# Altium schematic symbol library Schlib.SchLib: 137 symbols (part 1 of 4)
Pins are listed as number, name and electrical type; pins without a type are passive.

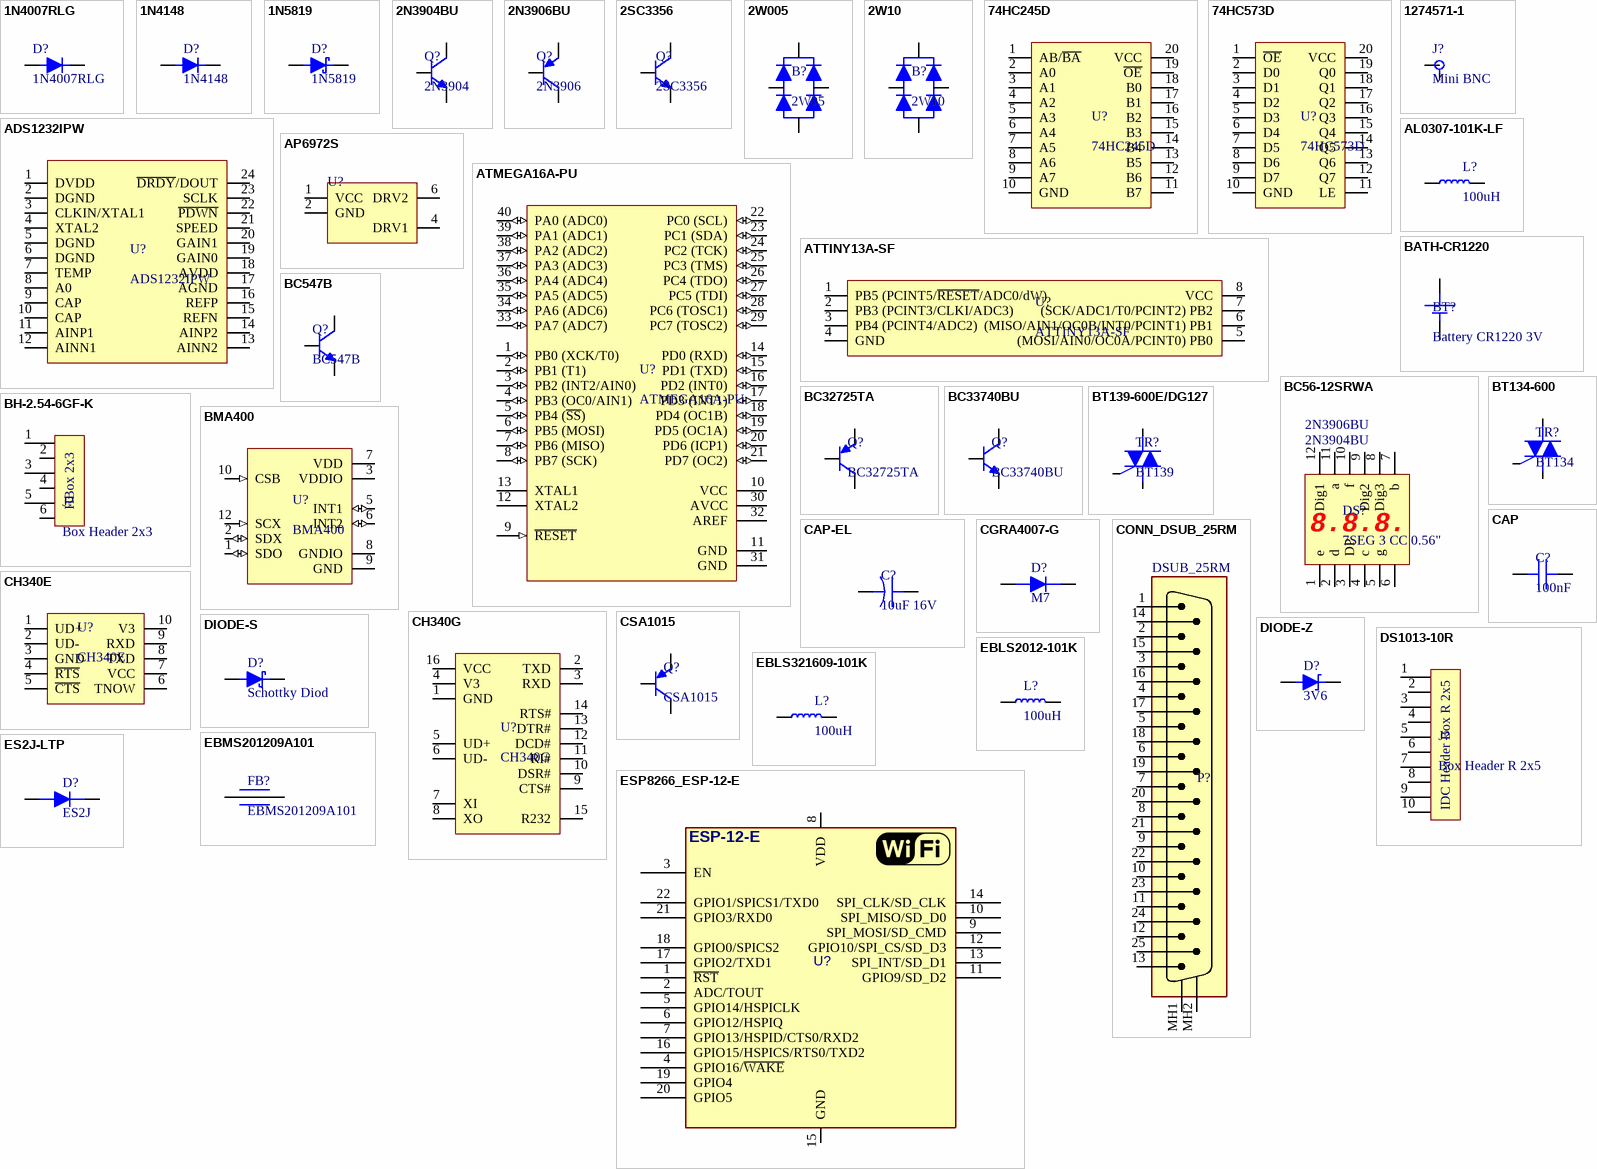
[diagram p0: symbols 1N4007RLG to ESP8266_ESP-12-E]

## 1N4007RLG
designator D?
Rectifier Diode Switching 1KV 1A 2-Pin DO-41 T/R / DIODE GEN PURP 1KV 1A DO41; Manufacturer: ON Semiconductor; Element Configuration: Single; Polarity: Standard; Max Reverse Current: 10uA; Forward Voltage: 1.1V; Max Forward Surge Current (Ifsm): 30A; Supplier 1: Digi-Key; Manufacturer Part Number: 1N4007RLG; RoHS: Yes; Category: Rectifier Diodes; Stock 1: 67771; Pricing 1: 1=0/26000, 10=0/21700, 100=0/11480, 500=0/07552, 1000=0/05136, 2000=0/04632 (USD); Number of Pins: 2; Weight: 0.01lb; Contact Plating: Tin,Matte; Min Operating Temperature: -65°C; Max Operating Temperature: 175°C; Packaging: Tape and Reel; Max Repetitive Reverse Voltage (Vrrm): 1kV; Package Quantity: 1; Voltage Rating (DC): 1kV; Current Rating: 1A; Peak Non-Repetitive Surge Current: 30A; Output Current: 1A; Max Surge Current: 30A; Forward Current: 1A; Average Rectified Current: 1A; Max Reverse Voltage (DC): 1kV; Reverse Voltage: 1kV; Length: 5.2mm; Width: 2.7mm; Height: 2.7mm; Radiation Hardening: No; RoHS Compliant: Yes; Lead Free: Lead Free; REACH SVHC: No SVHC; Halogen Free: Halogen Free; ComponentLink1URL: https://datasheet.ciiva.com/915/1n4001-d-915344.pdf?src-supplier=Digi-Key; ComponentLink1Description: https://datasheet.ciiva.com/915/1n4001-d-915344.pdf?src-supplier=Digi-Key; ComponentLink2URL: https://datasheet.ciiva.com/30479/0900766b811a6370-30479218.pdf?src-supplier=RSComponents; ComponentLink2Description: https://datasheet.ciiva.com/30479/0900766b811a6370-30479218.pdf?src-supplier=RSComponents; ComponentLink3URL: https://datasheet.ciiva.com/30479/0900766b811a6370-30479534.pdf?src-supplier=RSComponents; ComponentLink3Description: https://datasheet.ciiva.com/30479/0900766b811a6370-30479534.pdf?src-supplier=RSComponents; ComponentLink4URL: https://datasheet.ciiva.com/30479/0900766b811a6370-30479209.pdf?src-supplier=RSComponents; ComponentLink4Description: https://datasheet.ciiva.com/30479/0900766b811a6370-30479209.pdf?src-supplier=RSComponents; ComponentLink5URL: https://datasheet.ciiva.com/3304/1n4001-d-3304216.pdf?src-supplier=Avnet; ComponentLink5Description: https://datasheet.ciiva.com/3304/1n4001-d-3304216.pdf?src-supplier=Avnet; ComponentLink6URL: https://datasheet.ciiva.com/15144/getdatasheetpartid-66688-15144397.pdf?src-supplier=Verical; ComponentLink6Description: https://datasheet.ciiva.com/15144/getdatasheetpartid-66688-15144397.pdf?src-supplier=Verical; ComponentLink7URL: https://datasheet.ciiva.com/25950/1n4001-d-25950062.pdf?src-supplier=Avnet+Europe; ComponentLink7Description: https://datasheet.ciiva.com/25950/1n4001-d-25950062.pdf?src-supplier=Avnet+Europe; ComponentLink8URL: https://datasheet.ciiva.com/16472/1n4001-d-16472587.pdf?src-supplier=Avnet+Asia; ComponentLink8Description: https://datasheet.ciiva.com/16472/1n4001-d-16472587.pdf?src-supplier=Avnet+Asia; ComponentLink9URL: https://datasheet.ciiva.com/915/1n4001-d-915345.pdf?src-supplier=Digi-Key; ComponentLink9Description: https://datasheet.ciiva.com/915/1n4001-d-915345.pdf?src-supplier=Digi-Key; ComponentLink10URL: https://datasheet.ciiva.com/22659/1689669-22659000.pdf?src-supplier=Element14; ComponentLink10Description: https://datasheet.ciiva.com/22659/1689669-22659000.pdf?src-supplier=Element14; ComponentLink11URL: https://datasheet.ciiva.com/22659/1689669-22659001.pdf?src-supplier=Element14; ComponentLink11Description: https://datasheet.ciiva.com/22659/1689669-22659001.pdf?src-supplier=Element14; Supplier Part Number 1: 1N4007RLGOSCT-ND
footprint Diode_Axial_Lead
pins: A, K

## 1N4148
designator D?
Rectifier Diode Small Signal Switching 100V 0.2A 4ns Automotive 2-Pin DO-35 Ammo; Manufacturer: NXP Semiconductors; Forward Voltage: 1V; Forward Current: 200mA; Element Configuration: Single; Max Forward Surge Current (Ifsm): 4A; Polarity: Standard; Capacitance: 4pF; Max Power Dissipation: 500mW; Supplier 1: Arrow Electronics; Manufacturer Part Number: 1N4148; RoHS: Yes; Category: Rectifier Diodes; Case/Package: SOD; Number of Pins: 2; Weight: 0.01lb; Min Operating Temperature: -65°C; Max Operating Temperature: 200°C; Packaging: Ammo Pack; Reverse Recovery Time: 4ns; Max Repetitive Reverse Voltage (Vrrm): 100V; Peak Non-Repetitive Surge Current: 4A; Current Rating: 200mA; Voltage Rating (DC): 100V; Output Current: 200mA; Voltage: 100V; Current: 4A; Termination: Axial; Length: 2.5inch; Width: 0.25inch; Height: 0.25inch; Radiation Hardening: No; Lead Free: Lead Free; RoHS Compliant: Yes; REACH SVHC: No SVHC; ComponentLink1URL: https://datasheet.ciiva.com/1179/1720485-1179297.pdf?src-supplier=Element14; ComponentLink1Description: https://datasheet.ciiva.com/1179/1720485-1179297.pdf?src-supplier=Element14; ComponentLink2URL: https://datasheet.ciiva.com/26921/getdatasheetpartid-764103-26921186.pdf?src-supplier=Verical; ComponentLink2Description: https://datasheet.ciiva.com/26921/getdatasheetpartid-764103-26921186.pdf?src-supplier=Verical; Supplier Part Number 1: 1N4148
footprint DO-35
pins: A, K

## 1N5819
designator D?
1N58 Series 600 mV 1 A 40 V Max Reverse Voltage Schottky Barrier Rectifier-DO-41; Manufacturer: ON Semiconductor / Fairchild; Max Reverse Current: 500uA; Forward Voltage: 900mV; Forward Current: 1A; Max Repetitive Reverse Voltage (Vrrm): 40V; Peak Non-Repetitive Surge Current: 25A; Element Configuration: Single; Polarity: Standard; Capacitance: 110pF; Max Reverse Leakage Current: 1mA; Supplier 1: Digi-Key; Manufacturer Part Number: 1N5819; RoHS: Yes; Category: Schottky Diodes; Mount: Through Hole; Case/Package: DO-41; Number of Pins: 2; Weight: 0.245g; Contact Plating: Tin,Matte; Min Operating Temperature: -65°C; Max Operating Temperature: 125°C; Packaging: Tape and Reel; Package Quantity: 5000; Average Rectified Current: 1A; Voltage Rating (DC): 40V; Current Rating: 1A; Output Current: 1A; Max Reverse Voltage (DC): 40V; Max Surge Current: 25A; Max Forward Surge Current (Ifsm): 25A; Series: -; Diameter: 2.72mm; Length: 5.2mm; Width: 2.72mm; Height: 2.72mm; Radiation Hardening: No; RoHS Compliant: Yes; REACH SVHC: No SVHC; Lead Free: Lead Free; ComponentLink1URL: https://datasheet.ciiva.com/34302/1200637-34302074.pdf?src-supplier=Jameco; ComponentLink1Description: https://datasheet.ciiva.com/34302/1200637-34302074.pdf?src-supplier=Jameco; ComponentLink2URL: https://datasheet.ciiva.com/4719/1n5817-d-103200-4719059.pdf?src-supplier=Mouser; ComponentLink2Description: https://datasheet.ciiva.com/4719/1n5817-d-103200-4719059.pdf?src-supplier=Mouser; ComponentLink3URL: https://datasheet.ciiva.com/25951/1n5819-25951350.pdf?src-supplier=Avnet+Europe; ComponentLink3Description: https://datasheet.ciiva.com/25951/1n5819-25951350.pdf?src-supplier=Avnet+Europe; ComponentLink4URL: https://datasheet.ciiva.com/1177/1671052-1177084.pdf?src-supplier=Element14; ComponentLink4Description: https://datasheet.ciiva.com/1177/1671052-1177084.pdf?src-supplier=Element14; ComponentLink5URL: https://datasheet.ciiva.com/8300/1n5819-8300426.pdf?src-supplier=Avnet; ComponentLink5Description: https://datasheet.ciiva.com/8300/1n5819-8300426.pdf?src-supplier=Avnet; ComponentLink6URL: https://datasheet.ciiva.com/22651/1671052-22651942.pdf?src-supplier=Element14; ComponentLink6Description: https://datasheet.ciiva.com/22651/1671052-22651942.pdf?src-supplier=Element14; Supplier Part Number 1: 1N5819FSCT-ND
footprint Diode_Axial_Lead
pins: A, K

## 2N3904BU
designator Q?, comment 2N3904
Transistor General Purpose BJT NPN 40 Volt 0.2 Amp 3-Pin TO-92 Bulk
footprint TO-92
pins: 1 E, 2 B, 3 C

## 2N3906BU
designator Q?, comment 2N3906
Transistor General Purpose BJT PNP 40 Volt 0.2 Amp 3-Pin TO-92 Bulk
footprint to-92
pins: 1 E, 2 B, 3 C

## 2SC3356
designator Q?
NPN Epitaxial Silicon RF Transistor for Microwave Low-Noise Amplification 3-pin Minimold R25 1GHz
footprint SOT-23-3
pins: 1 B, 2 E, 3 C

## 2W005
designator B?, comment 2W05
Diode Bridge Rectifer Vr=50V IF=2A VF=1.1V@2A; Manufacturer: Vishay Semiconductors; Manufacturer Part Number: 2W10G-E4/51; Capacitance: 20pF; Forward Current: 2A; Max Reverse Current: 5uA; Max Surge Current: 60A; Forward Voltage: 1.1V; Number of Elements: 1; Max Repetitive Reverse Voltage (Vrrm): 1kV; Element Configuration: Single; RoHS: Yes; Category: Rectifier Diodes; Stock 1: 347; Pricing 1: 1=0/85000, 10=0/75400, 50=0/75400, 100=0/57800, 1000=0/36600, 10000=0/32100 (USD); Mount: Through Hole; Number of Pins: 4; Min Operating Temperature: -55°C; Max Operating Temperature: 150°C; Packaging: Bulk; Package Quantity: 3000; Series: -; Max Reverse Leakage Current: 5uA; Peak Non-Repetitive Surge Current: 60A; Max Forward Surge Current (Ifsm): 60A; Average Rectified Current: 2A; Output Current: 2A; Diameter: 9mm; Length: 9.86mm; Width: 8.84mm; Height: 5.6mm; Radiation Hardening: No; RoHS Compliant: Yes; Lead Free: Lead Free; REACH SVHC: Unknown
footprint 2WXX-Round-8.85x5.3-Pin5.1x5.1mm
pins: 1 +, 2 ~, 3 -, 4 ~

## 2W10
designator B?
Diode Bridge Rectifer Vr=1000V IF=2A VF=1.1V@2A; Manufacturer: Vishay Semiconductors; Manufacturer Part Number: 2W10G-E4/51; Capacitance: 20pF; Forward Current: 2A; Max Reverse Current: 5uA; Max Surge Current: 60A; Forward Voltage: 1.1V; Number of Elements: 1; Max Repetitive Reverse Voltage (Vrrm): 1kV; Element Configuration: Single; RoHS: Yes; Category: Rectifier Diodes; Stock 1: 347; Pricing 1: 1=0/85000, 10=0/75400, 50=0/75400, 100=0/57800, 1000=0/36600, 10000=0/32100 (USD); Mount: Through Hole; Number of Pins: 4; Min Operating Temperature: -55°C; Max Operating Temperature: 150°C; Packaging: Bulk; Package Quantity: 3000; Series: -; Max Reverse Leakage Current: 5uA; Peak Non-Repetitive Surge Current: 60A; Max Forward Surge Current (Ifsm): 60A; Average Rectified Current: 2A; Output Current: 2A; Diameter: 9mm; Length: 9.86mm; Width: 8.84mm; Height: 5.6mm; Radiation Hardening: No; RoHS Compliant: Yes; Lead Free: Lead Free; REACH SVHC: Unknown
footprint 2WXX-Round-8.85x5.3-Pin5.1x5.1mm
pins: 1 +, 2 ~, 3 -, 4 ~

## 74HC245D
designator U?
74HC Series 6V Surface Mount 3-State Octal Bus Transceiver - SOIC-20; Manufacturer: Nexperia; Manufacturer Part Number: 74HC245D,653; Supplier 1: Mouser; RoHS: Yes; Category: Buffers, Drivers and Transceivers; Stock 1: 690; Pricing 1: 1=0/60000, 10=0/49300, 50=0/49300, 100=0/38100, 1000=0/25100, 10000=0/24300 (USD); RoHS Compliant: Yes; ComponentLink1URL: http://www.farnell.com/datasheets/2030231.pdf?src-supplier=Farnell; ComponentLink1Description: http://www.farnell.com/datasheets/2030231.pdf?src-supplier=Farnell; Supplier Part Number 1: 771-74HC245D-T
footprint SOW-20
pins: 1 AB/~{BA}, 2 A0, 3 A1, 4 A2, 5 A3, 6 A4, 7 A5, 8 A6, 9 A7, 10 GND, 11 B7, 12 B6, 13 B5, 14 B4, 15 B3, 16 B2, 17 B1, 18 B0, 19 ~{OE}, 20 VCC

## 74HC573D
designator U?
IC LATCH OCTAL D 3STATE 20SOIC; Manufacturer: Nexperia; Manufacturer Part Number: 74HC573D,653; Supplier 1: Mouser; RoHS: Yes; Category: Latches and Flip Flops; Stock 1: 45124; Pricing 1: 1=0/67000, 10=0/58500, 50=0/58500, 100=0/44800, 1000=0/28400, 10000=0/25800 (USD); RoHS Compliant: Yes; ComponentLink1URL: https://assets.nexperia.com/documents/data-sheet/74HC_HCT573.pdf?src-supplier=Digi-Key; ComponentLink1Description: https://assets.nexperia.com/documents/data-sheet/74HC_HCT573.pdf?src-supplier=Digi-Key; Supplier Part Number 1: 771-74HC573D-T
footprint SOW-20
pins: 1 ~{OE}, 2 D0, 3 D1, 4 D2, 5 D3, 6 D4, 7 D5, 8 D6, 9 D7, 10 GND, 11 LE, 12 Q7, 13 Q6, 14 Q5, 15 Q4, 16 Q3, 17 Q2, 18 Q1, 19 Q0, 20 VCC

## 1274571-1
designator J?, comment Mini BNC
CONN MINI BNC JACK STR 75OHM PCB; Manufacturer: TE Connectivity; Manufacturer Part Number: 1274571-1; Dielectric Material: PTFE; Body Material: Brass; Body Plating: Nickel; Impedance: 75R; Frequency: 2GHz; Gender: Female; Voltage Rating: 300V; Contact Resistance: 12mR; Mating Cycles: 500; Connector Type: BNC,Jack; Polarity: Normal; Insulation Resistance: 1GR; Number of Positions: 1; PCB Mount Retention: Without; PCB Mounting Orientation: Vertical; Sealable: No (Without); Tail Length: 4mm; Supplier 1: Digi-Key; RoHS: Yes; Category: RF / Coaxial Connectors; Stock 1: 1165; Pricing 1: 1=5/95000, 10=5/40400, 25=5/11840, 50=4/99940, 100=4/76140, 250=4/16624, 500=4/04720, 1000=3/45202, 2500=3/33298 (USD); Mount: Through Hole,PCB,Cable; Contact Material: Bronze; Contact Plating: Gold; Insulation Material: Polytetrafluoroethylene; Min Operating Temperature: -40°C; Max Operating Temperature: 85°C; Orientation: Straight; Termination: Solder; Packaging: Box; Package Quantity: 50; Fastening Type: Bayonet; Voltage Rating (AC): 300V; Max Frequency: 2GHz; Length: 7.54mm; Depth: 7.54mm; Radiation Hardening: No; REACH SVHC: Unknown; ELV: Compliant; Lead Free: Lead Free; ComponentLink1URL: https://datasheet.ciiva.com/11763/0900766b80b27325-11763478.pdf?src-supplier=RSComponents; ComponentLink1Description: https://datasheet.ciiva.com/11763/0900766b80b27325-11763478.pdf?src-supplier=RSComponents; ComponentLink2URL: https://datasheet.ciiva.com/22726/eng-ss-501-585-a-22726636.pdf?src-supplier=Element14; ComponentLink2Description: https://datasheet.ciiva.com/22726/eng-ss-501-585-a-22726636.pdf?src-supplier=Element14; ComponentLink3URL: https://datasheet.ciiva.com/642/c-1274571-b-642904.pdf?src-supplier=Digi-Key; ComponentLink3Description: https://datasheet.ciiva.com/642/c-1274571-b-642904.pdf?src-supplier=Digi-Key; ComponentLink4URL: https://datasheet.ciiva.com/30164/eng-cs-1307191-mini-bnc-connectors-0307-30164565.pdf?src-supplier=Onlinecomponents.com; ComponentLink4Description: https://datasheet.ciiva.com/30164/eng-cs-1307191-mini-bnc-connectors-0307-30164565.pdf?src-supplier=Onlinecomponents.com; ComponentLink5URL: https://datasheet.ciiva.com/16652/eng-cs-1307191-mini-bnc-connectors-0307-16652971.pdf?src-supplier=Avnet+Europe; ComponentLink5Description: https://datasheet.ciiva.com/16652/eng-cs-1307191-mini-bnc-connectors-0307-16652971.pdf?src-supplier=Avnet+Europe; ComponentLink6URL: https://datasheet.ciiva.com/14568/70083431-14568396.pdf?src-supplier=Allied+Electronics; ComponentLink6Description: https://datasheet.ciiva.com/14568/70083431-14568396.pdf?src-supplier=Allied+Electronics; Supplier Part Number 1: A30539-ND
footprint BNC-Mini
footprint BNC-Mini_No3D
pins: 0, 1

## ADS1232IPW
designator U?
Dual Channel Single ADC Delta-Sigma 80sps 24-bit Serial 24-Pin TSSOP Tube; Manufacturer: Texas Instruments; Interface: SPI; Number of Bits: 24; Sampling Rate: 0.08KS/s; Number of A/D Converters: 1; Number of Channels: 2; Max Power Dissipation: 13.1mW; Min Supply Voltage: 2.7V; Max Supply Voltage: 5.3V; Nominal Supply Current: 1.35mA; Operating Supply Voltage: 5V; Resolution: 24b; Polarity: Bipolar; Power Dissipation: 7.1mW; Supply Type: Analog,Digital; Conversion Rate: 80S/s; Power Consumption: 4.3mW; Differential Nonlinearity: 1LSB; Supplier 1: Mouser; Manufacturer Part Number: ADS1232IPW; RoHS: Yes; Category: Analog to Digital Converters (ADCs); Pricing 1: 1=11/43000, 10=10/33000, 25=9/85000, 50=9/85000, 100=9/85000, 120=8/54000, 300=8/16000, 1000=8/16000, 10000=8/16000 (USD); Case/Package: TSSOP; Number of Pins: 24; Contact Plating: Gold; Min Operating Temperature: -40°C; Max Operating Temperature: 105°C; Package Quantity: 60; Packaging: Rail/Tube; Number of Converters: 1; Number of Analog Inputs: 2; Number of Elements: 1; Termination: SMD/SMT; Number of Inputs: 2; Max Supply Voltage (DC): 5.3V; Min Supply Voltage (DC): 2.7V; Length: 7.8mm; Width: 4.4mm; Height: 1.15mm; Radiation Hardening: No; REACH SVHC: No SVHC; Lead Free: Lead Free; RoHS Compliant: Yes; ComponentLink1URL: https://datasheet.ciiva.com/4774/sbas350f-89987-4774016.pdf?src-supplier=Mouser; ComponentLink1Description: https://datasheet.ciiva.com/4774/sbas350f-89987-4774016.pdf?src-supplier=Mouser; ComponentLink2URL: https://datasheet.ciiva.com/41461/001186709-da-01-en-ic-adc-24-bit-10-ads1232ipw-tssop-24-tid-41461049.pdf?src-supplier=Conrad; ComponentLink2Description: https://datasheet.ciiva.com/41461/001186709-da-01-en-ic-adc-24-bit-10-ads1232ipw-tssop-24-tid-41461049.pdf?src-supplier=Conrad; ComponentLink3URL: https://datasheet.ciiva.com/7988/ads1234-7988918.pdf?src-supplier=Element14; ComponentLink3Description: https://datasheet.ciiva.com/7988/ads1234-7988918.pdf?src-supplier=Element14; ComponentLink4URL: https://datasheet.ciiva.com/22728/1716421-22728536.pdf?src-supplier=Element14; ComponentLink4Description: https://datasheet.ciiva.com/22728/1716421-22728536.pdf?src-supplier=Element14; ComponentLink5URL: https://datasheet.ciiva.com/3037/sbas350f-3037910.pdf?src-supplier=Avnet; ComponentLink5Description: https://datasheet.ciiva.com/3037/sbas350f-3037910.pdf?src-supplier=Avnet; ComponentLink6URL: https://datasheet.ciiva.com/15148/getdatasheetpartid-196507-15148092.pdf?src-supplier=Verical; ComponentLink6Description: https://datasheet.ciiva.com/15148/getdatasheetpartid-196507-15148092.pdf?src-supplier=Verical; Supplier Part Number 1: 595-ADS1232IPW
footprint TSSOP-24
pins: 1 DVDD, 2 DGND, 3 CLKIN/XTAL1, 4 XTAL2, 5 DGND, 6 DGND, 7 TEMP, 8 A0, 9 CAP, 10 CAP, 11 AINP1, 12 AINN1, 13 AINN2, 14 AINP2, 15 REFN, 16 REFP, 17 AGND, 18 AVDD, 19 GAIN0, 20 GAIN1, 21 SPEED, 22 ~{PDWN}, 23 SCLK, 24 ~{DRDY}/DOUT

## AL0307-101K-LF
designator L?, comment 100uH
Axial Lead Inductors(Coils)For Signal Line 100uH 165mA
footprint L-DIP_3x7mm_pin9mm
pins: 1, 2

## AP6972S
designator U?
two-channel LED color temperature adjustment chip; Part Number: AP6972S; ComponentLink1Description: info; ComponentLink1URL: https://en.publicxin.com/product/56.html; ComponentLink2Description: Datasheet; ComponentLink2URL: https://en.publicxin.com/comp/file/download.do?id=39; Case/Package: SOT23-6
footprint SOT-23-6_2 (AP6972S)
pins: 1 VCC, 2 GND, 4 DRV1, 6 DRV2

## ATMEGA16A-PU
designator U?
MCU 8-Bit ATmega AVR RISC 16KB Flash 3.3V/5V 40-Pin PDIP; Manufacturer: Microchip / Atmel; Frequency: 16MHz; Interface: I2C,SPI,UART,USART,2-Wire; Number of I/Os: 32; Oscillator Type: Internal; Peripherals: Brown-out Detect/Reset,POR,PWM,WDT; RAM Size: 1KB; Max Supply Voltage: 5.5V; Min Supply Voltage: 2.7V; Number of Timers/Counters: 3; Number of PWM Channels: 4; Number of ADC Channels: 8; Data Bus Width: 8b; Number of SPI Channels: 1; Watchdog Timer: Yes; Supplier 1: Digi-Key; Manufacturer Part Number: ATMEGA16A-PU; RoHS: Yes; Category: Microcontrollers; Stock 1: 31; Pricing 1: 1=3/96000, 25=3/63400, 100=3/28900 (USD); Mount: Through Hole; Case/Package: PDIP; Number of Pins: 40; Contact Plating: Tin,Matte; Min Operating Temperature: -40°C; Max Operating Temperature: 85°C; Core Architecture: AVR; Package Quantity: 10; Packaging: Rail/Tube; Memory Type: FLASH; Memory Size: 16KB; Series: AVR® ATmega; Number of Programmable I/O: 32; Max Frequency: 16MHz; Number of I2C Channels: 1; Length: 52.58mm; Width: 13.97mm; Height: 4.445mm; Radiation Hardening: No; REACH SVHC: No SVHC; Lead Free: Lead Free; ComponentLink1URL: https://datasheet.ciiva.com/26860/getdatasheetpartid-464499-26860340.pdf?src-supplier=Verical; ComponentLink1Description: https://datasheet.ciiva.com/26860/getdatasheetpartid-464499-26860340.pdf?src-supplier=Verical; ComponentLink2URL: https://datasheet.ciiva.com/14633/0900766b80db4e44-14633395.pdf?src-supplier=Allied+Electronics; ComponentLink2Description: https://datasheet.ciiva.com/14633/0900766b80db4e44-14633395.pdf?src-supplier=Allied+Electronics; ComponentLink3URL: https://datasheet.ciiva.com/1157/466147-1157513.pdf?src-supplier=Element14; ComponentLink3Description: https://datasheet.ciiva.com/1157/466147-1157513.pdf?src-supplier=Element14; Supplier Part Number 1: ATMEGA16A-PU-ND
footprint DIP-40
pins: 1 PB0 (XCK/T0) (io), 2 PB1 (T1) (io), 3 PB2 (INT2/AIN0) (io), 4 PB3 (OC0/AIN1) (io), 5 PB4 (~{SS}) (io), 6 PB5 (MOSI) (io), 7 PB6 (MISO) (io), 8 PB7 (SCK) (io), 9 ~{RESET} (in), 10 VCC (power), 11 GND (power), 12 XTAL2, 13 XTAL1, 14 PD0 (RXD) (io), 15 PD1 (TXD) (io), 16 PD2 (INT0) (io), 17 PD3 (INT1) (io), 18 PD4 (OC1B) (io), 19 PD5 (OC1A) (io), 20 PD6 (ICP1) (io), 21 PD7 (OC2) (io), 22 PC0 (SCL) (io), 23 PC1 (SDA) (io), 24 PC2 (TCK) (io), 25 PC3 (TMS) (io), 26 PC4 (TDO) (io), 27 PC5 (TDI) (io), 28 PC6 (TOSC1) (io), 29 PC7 (TOSC2) (io), 30 AVCC (power), 31 GND (power), 32 AREF (power), 33 PA7 (ADC7) (io), 34 PA6 (ADC6) (io), 35 PA5 (ADC5) (io), 36 PA4 (ADC4) (io), 37 PA3 (ADC3) (io), 38 PA2 (ADC2) (io), 39 PA1 (ADC1) (io), 40 PA0 (ADC0) (io)

## ATTINY13A-SF
designator U?
MICROCONTROLLER MCU, 8 BIT, ATTINY, 20MHZ, SOIC-8; Controller Family/Series:ATtiny; CPU Speed:20MHz; Program Memory Size:1KB; RAM Memory Size:60Byte; No. of Pins:8; MCU Case Style:SOIC; No. of I/Os:6; Embedded Interface Type:- ;RoHS Compliant: Yes; Manufacturer: Microchip / Atmel; Number of I/Os: 6; Oscillator Type: Internal; Memory Type: FLASH; Memory Size: 1KB; Peripherals: Brown-out Detect/Reset,POR,PWM,WDT; Core Architecture: AVR; Interface: SPI; Number of Timers/Counters: 1; RAM Size: 64B; Max Supply Voltage: 5.5V; Min Supply Voltage: 1.8V; Data Bus Width: 8b; Number of ADC Channels: 4; Number of PWM Channels: 2; Operating Supply Voltage: 3.3V; Supplier 1: Digi-Key; Manufacturer Part Number: ATTINY13A-SF; RoHS: Yes; Category: Microcontrollers; Pricing 1: 1=0/91000, 25=0/84720, 100=0/75900 (USD); Mount: Surface Mount; Case/Package: SOIC; Number of Pins: 8; Contact Plating: Tin,Matte; Min Operating Temperature: -40°C; Max Operating Temperature: 125°C; Packaging: Rail/Tube; Frequency: 20MHz; Series: AVR® ATtiny; Package Quantity: 95; Number of Programmable I/O: 6; Max Frequency: 20MHz; Watchdog Timer: Yes; Length: 5.35mm; Width: 5.4mm; Height: 1.91mm; RoHS Compliant: Yes; ComponentLink1URL: https://datasheet.ciiva.com/3203/8126s-3203928.pdf?src-supplier=Avnet; ComponentLink1Description: https://datasheet.ciiva.com/3203/8126s-3203928.pdf?src-supplier=Avnet; ComponentLink2URL: https://datasheet.ciiva.com/1559/8126s-1559805.pdf?src-supplier=Digi-Key; ComponentLink2Description: https://datasheet.ciiva.com/1559/8126s-1559805.pdf?src-supplier=Digi-Key; Supplier Part Number 1: ATTINY13A-SF-ND
footprint SOIJ-8
pins: 1 PB5 (PCINT5/~{RESET}/ADC0/dW), 2 PB3 (PCINT3/CLKI/ADC3), 3 PB4 (PCINT4/ADC2), 4 GND, 5 (MOSI/AIN0/OC0A/PCINT0) PB0, 6 (MISO/AIN1/OC0B/INT0/PCINT1) PB1, 7 (SCK/ADC1/T0/PCINT2) PB2, 8 VCC

## BATH-CR1220
designator BT?, comment Battery CR1220 3V
BATTERY HOLDER, CR1220; MANF_P#: -; .: http://www.chila.ir
footprint CR1220 (COIN CELL BATTERY HOLDER 1220 12mm)
pins: 1, 2

## BC56-12SRWA
designator DS?, comment 7SEG 3 CC 0.56"  Supplier Part Number 2: 2N3904BU  Supplier Part Number 3: 2N3906BU
Manufacturer: Kingbright; Manufacturer Part Number: BC56-12SRWA; Color: Red; Max Power Dissipation: 75mW; Element Configuration: Common Cathode; Forward Current: 20mA; Forward Voltage: 1.85V; Wavelength: 640nm; Number of Characters: 3; Luminous Intensity: 34mcd; Display Type: Segment; Collector Emitter Voltage (VCEO): 40V; Polarity: NPN; Power Dissipation: 625mW; hFE Min: 100; Max Collector Current: 200mA; Transition Frequency: 300MHz; Collector Base Voltage (VCBO): 60V; Emitter Base Voltage (VEBO): 6V; Collector Emitter Saturation Voltage: 300mV; Number of Elements: 1; Collector-emitter Voltage-Max: 400mV; Supplier 1: Mouser; RoHS: Yes; Category: LED Displays; Stock 1: 3096; Pricing 1: 1=6/34000, 10=4/49000, 50=4/49000, 100=4/49000, 1000=3/09000, 10000=2/92000 (USD); Case/Package: DIP; Number of Pins: 12; Min Operating Temperature: -40°C; Max Operating Temperature: 85°C; Package Quantity: 13; Illumination Color: Red; Packaging: Rail/Tube; Test Current: 20mA; Power Consumption: 75mW; Operating Supply Voltage: 1.85V; Length: 0.75inch; Width: 1.48inch; Height: 1.48inch; RoHS Compliant: Yes; Lead Free: Lead Free; ComponentLink1URL: https://datasheet.ciiva.com/2105/bc56-12srwa-2105105.pdf?src-supplier=Digi-Key; ComponentLink1Description: https://datasheet.ciiva.com/2105/bc56-12srwa-2105105.pdf?src-supplier=Digi-Key; ComponentLink2URL: https://datasheet.ciiva.com/4421/bc56-12srwa-39727-4421921.pdf?src-supplier=Mouser; ComponentLink2Description: https://datasheet.ciiva.com/4421/bc56-12srwa-39727-4421921.pdf?src-supplier=Mouser; ComponentLink3URL: https://datasheet.ciiva.com/26291/bc56-12srwa-26291765.pdf?src-supplier=Digi-Key; ComponentLink3Description: https://datasheet.ciiva.com/26291/bc56-12srwa-26291765.pdf?src-supplier=Digi-Key; ComponentLink4URL: https://datasheet.ciiva.com/16421/bc56-12srwa-16421526.pdf?src-supplier=Future+Electronics; ComponentLink4Description: https://datasheet.ciiva.com/16421/bc56-12srwa-16421526.pdf?src-supplier=Future+Electronics; Supplier Part Number 1: 604-BC56-12SRWA; Supplier 2: Arrow Electronics; Stock 2: 26056; Pricing 2: 1=0/31770, 10=0/23970, 100=0/10050, 500=0/09780, 1000=0/05830, 2000=0/05150, 5000=0/05090, 10000=0/05000, 50000=0/04820 (USD); Mount: Through Hole; Weight: 0.179g; Collector Emitter Breakdown Voltage: 40V; Gain Bandwidth Product: 300MHz; Voltage Rating (DC): 60V; Current Rating: 200mA; Frequency: 300MHz; Max Frequency: 300MHz; Radiation Hardening: No; REACH SVHC: No SVHC; ComponentLink5URL: https://datasheet.ciiva.com/15139/getdatasheetpartid-185752-15139727.pdf?src-supplier=Verical; ComponentLink5Description: https://datasheet.ciiva.com/15139/getdatasheetpartid-185752-15139727.pdf?src-supplier=Verical; ComponentLink6URL: https://datasheet.ciiva.com/19459/783421-19459422.pdf?src-supplier=Jameco; ComponentLink6Description: https://datasheet.ciiva.com/19459/783421-19459422.pdf?src-supplier=Jameco; ComponentLink7URL: https://datasheet.ciiva.com/972/mmbt3904-972165.pdf?src-supplier=Digi-Key; ComponentLink7Description: https://datasheet.ciiva.com/972/mmbt3904-972165.pdf?src-supplier=Digi-Key; Supplier 3: Arrow Electronics; Stock 3: 20000; Pricing 3: 20000=0/03540 (USD); Series: -; ComponentLink8URL: https://datasheet.ciiva.com/15138/getdatasheetpartid-38548-15138622.pdf?src-supplier=Verical; ComponentLink8Description: https://datasheet.ciiva.com/15138/getdatasheetpartid-38548-15138622.pdf?src-supplier=Verical; ComponentLink9URL: https://datasheet.ciiva.com/4721/2n3906-193744-4721955.pdf?src-supplier=Mouser; ComponentLink9Description: https://datasheet.ciiva.com/4721/2n3906-193744-4721955.pdf?src-supplier=Mouser; ComponentLink10URL: https://datasheet.ciiva.com/19459/783455-19459427.pdf?src-supplier=Jameco; ComponentLink10Description: https://datasheet.ciiva.com/19459/783455-19459427.pdf?src-supplier=Jameco; ComponentLink11URL: https://datasheet.ciiva.com/6897/1725602-6897721.pdf?src-supplier=Newark; ComponentLink11Description: https://datasheet.ciiva.com/6897/1725602-6897721.pdf?src-supplier=Newark; ComponentLink12URL: https://datasheet.ciiva.com/22714/1817590-22714317.pdf?src-supplier=Element14; ComponentLink12Description: https://datasheet.ciiva.com/22714/1817590-22714317.pdf?src-supplier=Element14; ComponentLink13URL: https://datasheet.ciiva.com/3303/mmbt3906-3303862.pdf?src-supplier=Avnet; ComponentLink13Description: https://datasheet.ciiva.com/3303/mmbt3906-3303862.pdf?src-supplier=Avnet; ComponentLink14URL: https://datasheet.ciiva.com/16741/2n3906-16741599.pdf?src-supplier=Future+Electronics; ComponentLink14Description: https://datasheet.ciiva.com/16741/2n3906-16741599.pdf?src-supplier=Future+Electronics; ComponentLink15URL: https://datasheet.ciiva.com/972/2n3906-972181.pdf?src-supplier=Digi-Key; ComponentLink15Description: https://datasheet.ciiva.com/972/2n3906-972181.pdf?src-supplier=Digi-Key
footprint 7SEG-3-37.6x16-12Pin
pins: 1 e, 2 d, 3 DP, 4 c, 5 g, 6, 7 b, 8 Dig3, 9 Dig2, 10 f, 11 a, 12 Dig1
text: 8.8.8.

## BC547B
designator Q?
NPN TRANSISTOR 1.5A 40V SOT-23 R; Manufacturer: ON Semiconductor / Fairchild; Collector Emitter Voltage (VCEO): 45V; Max Power Dissipation: 500mW; Max Collector Current: 100mA; Collector Base Voltage (VCBO): 50V; Emitter Base Voltage (VEBO): 6V; Element Configuration: Single; Number of Elements: 1; hFE Min: 200; Frequency: 300MHz; Gain Bandwidth Product: 100MHz; Collector Emitter Saturation Voltage: 300mV; Supplier 1: Digi-Key; Manufacturer Part Number: BC547B; RoHS: Yes; Category: BJTs; Stock 1: 3549; Pricing 1: 1=0/50000, 10=0/36900, 25=0/32280, 100=0/20890, 500=0/13832, 1000=0/10605, 2500=0/09222, 5000=0/08300 (USD); Mount: Through Hole; Case/Package: TO-92; Number of Pins: 3; Weight: 0.007055oz; Contact Plating: Copper,Tin,Silver; Min Operating Temperature: -65°C; Max Operating Temperature: 150°C; Packaging: Bulk; Polarity: NPN; Power Dissipation: 500mW; Package Quantity: 2000; Voltage Rating (DC): 45V; Current Rating: 100mA; Collector Emitter Breakdown Voltage: 45V; Transition Frequency: 300MHz; Max Frequency: 300MHz; Max Breakdown Voltage: 45V; Voltage: 40V; Length: 4.58mm; Width: 3.86mm; Height: 4.58mm; Radiation Hardening: No; Lead Free: Lead Free; REACH SVHC: No SVHC; ComponentLink1URL: https://datasheet.ciiva.com/17011/bc547-17011404.pdf?src-supplier=Future+Electronics; ComponentLink1Description: https://datasheet.ciiva.com/17011/bc547-17011404.pdf?src-supplier=Future+Electronics; ComponentLink2URL: https://datasheet.ciiva.com/985/bc546-547-548rev5-985523.pdf?src-supplier=Digi-Key; ComponentLink2Description: https://datasheet.ciiva.com/985/bc546-547-548rev5-985523.pdf?src-supplier=Digi-Key; ComponentLink3URL: https://datasheet.ciiva.com/972/bc546-972262.pdf?src-supplier=Digi-Key; ComponentLink3Description: https://datasheet.ciiva.com/972/bc546-972262.pdf?src-supplier=Digi-Key; ComponentLink4URL: https://datasheet.ciiva.com/1195/1868820-1195464.pdf?src-supplier=Element14; ComponentLink4Description: https://datasheet.ciiva.com/1195/1868820-1195464.pdf?src-supplier=Element14; ComponentLink5URL: https://datasheet.ciiva.com/25996/bc550-25996616.pdf?src-supplier=Avnet+Europe; ComponentLink5Description: https://datasheet.ciiva.com/25996/bc550-25996616.pdf?src-supplier=Avnet+Europe; ComponentLink6URL: https://datasheet.ciiva.com/11197/bc550-11197769.pdf?src-supplier=Avnet; ComponentLink6Description: https://datasheet.ciiva.com/11197/bc550-11197769.pdf?src-supplier=Avnet; ComponentLink7URL: https://datasheet.ciiva.com/16472/bc550-16472201.pdf?src-supplier=Avnet+Asia; ComponentLink7Description: https://datasheet.ciiva.com/16472/bc550-16472201.pdf?src-supplier=Avnet+Asia; Supplier Part Number 1: BC547BFS-ND; Supplier 2: Digi-Key; Stock 2: 349867; Pricing 2: 1=0.24000, 10=0.20000, 100=0.10620, 500=0.06986, 1000=0.04751 (USD); ComponentLink8URL: http://www.comchiptech.com/admin/files/product/SS8050-G RevA181526.pdf?src-supplier=Digi-Key; ComponentLink8Description: http://www.comchiptech.com/admin/files/product/SS8050-G RevA181526.pdf?src-supplier=Digi-Key; ComponentLink9URL: http://www.comchiptech.com/cms/UserFiles/SS8050-G%20RevA181526.pdf?src-supplier=Digi-Key; ComponentLink9Description: http://www.comchiptech.com/cms/UserFiles/SS8050-G%20RevA181526.pdf?src-supplier=Digi-Key; Supplier Part Number 2: 641-1790-1-ND
footprint TO-92
pins: 1 C, 2 B, 3 E

## BC32725TA
designator Q?
BC327 Series 45 V 800 mA Through Hole PNP Epitaxial Silicon Transistor - TO-92-3; Manufacturer: ON Semiconductor / Fairchild; Collector Emitter Voltage (VCEO): 45V; hFE Min: 100; Max Power Dissipation: 625mW; Max Collector Current: 800mA; Transition Frequency: 100MHz; Collector Emitter Breakdown Voltage: -45V; Emitter Base Voltage (VEBO): 5V; Collector Emitter Saturation Voltage: -700mV; Element Configuration: Single; Number of Elements: 1; Voltage Rating (DC): -50V; Current Rating: -800mA; Current: 500mA; Supplier 1: Mouser; Manufacturer Part Number: BC32725TA; RoHS: Yes; Category: Integrated Circuits (ICs); Stock 1: 14235; Pricing 1: 1=0/40000, 10=0/32400, 50=0/32400, 100=0/17200, 1000=0/07700, 10000=0/06000 (USD); Mount: Through Hole; Case/Package: TO-92; Number of Pins: 3; Weight: 0.008466oz; Contact Plating: Tin,Matte; Min Operating Temperature: -55°C; Max Operating Temperature: 150°C; Package Quantity: 1; Packaging: Ammo Pack; Polarity: PNP; Gain Bandwidth Product: 100MHz; Frequency: 100MHz; Power Dissipation: 625mW; Max Frequency: 100MHz; Max Breakdown Voltage: 45V; Length: 5.2mm; Width: 4.19mm; Height: 5.33mm; Radiation Hardening: No; Lead Free: Lead Free; RoHS Compliant: Yes; REACH SVHC: No SVHC; ComponentLink1URL: https://datasheet.ciiva.com/46415/1868818-46415421.pdf?src-supplier=Element14; ComponentLink1Description: https://datasheet.ciiva.com/46415/1868818-46415421.pdf?src-supplier=Element14; ComponentLink2URL: https://datasheet.ciiva.com/4721/bc327-30422-4721893.pdf?src-supplier=Mouser; ComponentLink2Description: https://datasheet.ciiva.com/4721/bc327-30422-4721893.pdf?src-supplier=Mouser; ComponentLink3URL: https://datasheet.ciiva.com/11205/bc327-11205903.pdf?src-supplier=Avnet; ComponentLink3Description: https://datasheet.ciiva.com/11205/bc327-11205903.pdf?src-supplier=Avnet; ComponentLink4URL: https://datasheet.ciiva.com/17167/bc327-17167789.pdf?src-supplier=Future+Electronics; ComponentLink4Description: https://datasheet.ciiva.com/17167/bc327-17167789.pdf?src-supplier=Future+Electronics; ComponentLink5URL: https://datasheet.ciiva.com/15208/getdatasheetpartid-196589-15208717.pdf?src-supplier=Verical; ComponentLink5Description: https://datasheet.ciiva.com/15208/getdatasheetpartid-196589-15208717.pdf?src-supplier=Verical; ComponentLink6URL: https://datasheet.ciiva.com/972/bc327-972002.pdf?src-supplier=Digi-Key; ComponentLink6Description: https://datasheet.ciiva.com/972/bc327-972002.pdf?src-supplier=Digi-Key; ComponentLink7URL: https://datasheet.ciiva.com/972/bc327-972001.pdf?src-supplier=Digi-Key; ComponentLink7Description: https://datasheet.ciiva.com/972/bc327-972001.pdf?src-supplier=Digi-Key; Supplier Part Number 1: 512-BC32725TA
footprint TO-92
pins: 1 C, 2 B, 3 E

## BC33740BU
designator Q?
BC337 Series 45 V 800 mA Through Hole NPN General Purpose Amplifier - TO-92-3; Manufacturer: ON Semiconductor / Fairchild; Max Power Dissipation: 625mW; Collector Emitter Voltage (VCEO): 45V; Transition Frequency: 100MHz; Number of Elements: 1; hFE Min: 100; Emitter Base Voltage (VEBO): 5V; Max Collector Current: 800mA; Element Configuration: Single; Collector Emitter Saturation Voltage: 700mV; Collector Base Voltage (VCBO): 50V; Supplier 1: Mouser; Manufacturer Part Number: BC33740BU; RoHS: Yes; Category: BJTs; Stock 1: 18226; Pricing 1: 1=0/41000, 10=0/33100, 50=0/33100, 100=0/17600, 500=0/11600, 1000=0/07900, 2500=0/06200, 10000=0/05200 (USD); Mount: Through Hole; Case/Package: TO-92; Number of Pins: 3; Weight: 0.179g; Contact Plating: Tin,Matte; Min Operating Temperature: -55°C; Max Operating Temperature: 150°C; Polarity: NPN; Collector Emitter Breakdown Voltage: 45V; Power Dissipation: 625mW; Frequency: 100MHz; Packaging: Bulk; Package Quantity: 1000; Gain Bandwidth Product: 100MHz; Max Frequency: 100MHz; Voltage Rating (DC): 45V; Current Rating: 800mA; Length: 4.58mm; Width: 3.86mm; Height: 4.58mm; Radiation Hardening: No; REACH SVHC: No SVHC; Lead Free: Lead Free; RoHS Compliant: Yes; ComponentLink1URL: https://datasheet.ciiva.com/15138/getdatasheetpartid-60356-15138927.pdf?src-supplier=Verical; ComponentLink1Description: https://datasheet.ciiva.com/15138/getdatasheetpartid-60356-15138927.pdf?src-supplier=Verical; ComponentLink2URL: https://datasheet.ciiva.com/11197/bc338-11197759.pdf?src-supplier=Avnet; ComponentLink2Description: https://datasheet.ciiva.com/11197/bc338-11197759.pdf?src-supplier=Avnet; ComponentLink3URL: https://datasheet.ciiva.com/972/bc337-972223.pdf?src-supplier=Digi-Key; ComponentLink3Description: https://datasheet.ciiva.com/972/bc337-972223.pdf?src-supplier=Digi-Key; Supplier Part Number 1: 512-BC33740BU
footprint TO-92
pins: 1 C, 2 B, 3 E

## BH-2.54-6GF-K
designator J?, comment Box Header 2x3
2.54MM BOX HEADER DIP STRAIGHT;BOX 2*3 ST 2.54mm Box Header Dip Straight ; 6 Position
footprint HB-6
pins: 1, 2, 3, 4, 5, 6
text: HBox 2x3

## BMA400
designator U?
ACCELEROMETER 2-16G 12LGA; Manufacturer: Bosch Sensortec; Axis: X, Y, Z; Supplier 1: Digi-Key; Manufacturer Part Number: BMA400; RoHS: No; Pricing 1: 1=3/98000, 5=3/70000, 10=3/07400, 25=2/56160, 50=2/27700, 100=2/16320 (USD); Mount: Surface Mount; Case/Package: LGA; Number of Pins: 12; Packaging: Tape and Reel; ComponentLink1URL: https://ae-bst.resource.bosch.com/media/_tech/media/datasheets/BST-BMA400-DS000.pdf?src-supplier=Digi-Key; ComponentLink1Description: https://ae-bst.resource.bosch.com/media/_tech/media/datasheets/BST-BMA400-DS000.pdf?src-supplier=Digi-Key; Supplier Part Number 1: 828-1081-1-ND
footprint XDCR_BMA400
pins: 1 SDO (io), 2 SDX (io), 3 VDDIO (power), 4 NC hidden, 5 INT1 (io), 6 INT2 (io), 7 VDD (power), 8 GNDIO (power), 9 GND (power), 10 CSB (in), 11 NC hidden, 12 SCX (in)

## BT134-600
designator TR?, comment BT134
Triac, 4A 600V SOT-82; Manufacturer: NXP Semiconductors; Manufacturer Part Number: BT134-600; Hold Current: 15mA; Supplier 1: Mouser; RoHS: Yes; Category: Thyristors; Mount: Through Hole; Case/Package: SOT-82-3; Number of Pins: 3; Min Operating Temperature: -40°C; Max Operating Temperature: 125°C; Packaging: Rail/Tube; Max Repetitive Reverse Voltage (Vrrm): 600V; Package Quantity: 50; Current Rating: 4A; Voltage Rating (DC): 600V; Length: 7.8mm; Width: 2.8mm; Height: 11.1mm; Lead Free: Lead Free; RoHS Compliant: No; ComponentLink1URL: http://uk.rs-online.com/webdocs/002f/0900766b8002f2d8.pdf?src-supplier=RSComponents; ComponentLink1Description: http://uk.rs-online.com/webdocs/002f/0900766b8002f2d8.pdf?src-supplier=RSComponents; ComponentLink2URL: http://www.mouser.com/ds/2/302/BT134_SERIES_1-79951.pdf?src-supplier=Mouser; ComponentLink2Description: http://www.mouser.com/ds/2/302/BT134_SERIES_1-79951.pdf?src-supplier=Mouser; ComponentLink3URL: http://www.farnell.com/datasheets/1815163.pdf?src-supplier=Element14; ComponentLink3Description: http://www.farnell.com/datasheets/1815163.pdf?src-supplier=Element14; Supplier Part Number 1: 771-BT134-600
footprint SOT-82
pins: 1, 2, 3

## BT139-600E/DG127
designator TR?, comment BT139
Thyristor TRIAC 600V 170A 3-Pin(3+Tab) TO-220AB Tube; Manufacturer: NXP Semiconductors; Manufacturer Part Number: BT139-600E/DG127; RMS Current (Irms): 12A; Hold Current: 45mA; Element Configuration: Single; Supplier 1: Digi-Key; RoHS: Yes; Category: TRIACs; Mount: Through Hole; Case/Package: TO-220-3; Number of Pins: 3; Min Operating Temperature: -40°C; Max Operating Temperature: 125°C; Packaging: Rail/Tube; Package Quantity: 1000; Max Repetitive Reverse Voltage (Vrrm): 600V; Radiation Hardening: No; ComponentLink1URL: https://datasheet.ciiva.com/12322/bt139-600e-112280-12322387.pdf?src-supplier=Mouser; ComponentLink1Description: https://datasheet.ciiva.com/12322/bt139-600e-112280-12322387.pdf?src-supplier=Mouser; ComponentLink2URL: https://datasheet.ciiva.com/26912/getdatasheetpartid-761962-26912235.pdf?src-supplier=Verical; ComponentLink2Description: https://datasheet.ciiva.com/26912/getdatasheetpartid-761962-26912235.pdf?src-supplier=Verical; ComponentLink3URL: https://datasheet.ciiva.com/15141/getdatasheetpartid-508042-15141145.pdf?src-supplier=Verical; ComponentLink3Description: https://datasheet.ciiva.com/15141/getdatasheetpartid-508042-15141145.pdf?src-supplier=Verical; ComponentLink4URL: https://datasheet.ciiva.com/49062/getdatasheetpartid-761962-49062523.pdf?src-supplier=Verical; ComponentLink4Description: https://datasheet.ciiva.com/49062/getdatasheetpartid-761962-49062523.pdf?src-supplier=Verical; Supplier Part Number 1: 568-9789-5-ND
footprint TO-220
pins: 1, 2, 3

## CAP
designator C?, comment 100nF
CAPACITOR BIPOLAR
footprint C-BP-Ceramic-DIP
footprint C-1206_R
footprint C-0805 (Footprint not found)
footprint C-1206_W (WAVE SOLDERING)
footprint C-0603
pins: 1, 2

## CAP-EL
designator C?, comment 10uF 16V
CAPACITOR ELECTROLYTIC
footprint C-EL_5x11x2mm
footprint C-EL_8x11.5x3.5mm
footprint C-EL_10x12.5x5mm
footprint C-EL_16.2x16.7x7.62mm
footprint C-EL_6.5x7x2.5mm
pins: A, K

## CGRA4007-G
designator D?, comment M7
DIODE GEN PURP 1KV 1A DO214AC; Manufacturer: Comchip; Manufacturer Part Number: CGRA4007-G; Max Reverse Current: 5uA; Polarity: Standard; Max Surge Current: 30A; Supplier 1: Digi-Key; RoHS: Yes; Category: Rectifier Diodes; Stock 1: 357790; Pricing 1: 1=0/28000, 10=0/22800, 100=0/12080, 500=0/07950, 1000=0/05406, 2000=0/04876 (USD); Mount: Surface Mount; Reverse Voltage: 1kV; Max Reverse Voltage (DC): 1kV; Average Rectified Current: 1A; Forward Current: 1A; Voltage Rating (DC): 1kV; Current Rating: 1A; Output Current: 1A; Package Quantity: 5000; Packaging: Tape and Reel; Lead Free: Lead Free; ComponentLink1URL: https://datasheet.ciiva.com/911/cgra4001-gthru-cgra4007-hfrevd-911849.pdf?src-supplier=Digi-Key; ComponentLink1Description: https://datasheet.ciiva.com/911/cgra4001-gthru-cgra4007-hfrevd-911849.pdf?src-supplier=Digi-Key; ComponentLink2URL: https://datasheet.ciiva.com/911/cgra4001-gthru-cgra4007-hfrevd-911851.pdf?src-supplier=Digi-Key; ComponentLink2Description: https://datasheet.ciiva.com/911/cgra4001-gthru-cgra4007-hfrevd-911851.pdf?src-supplier=Digi-Key; ComponentLink3URL: https://datasheet.ciiva.com/911/cgra4001-gthru-cgra4007-hfrevd-911850.pdf?src-supplier=Digi-Key; ComponentLink3Description: https://datasheet.ciiva.com/911/cgra4001-gthru-cgra4007-hfrevd-911850.pdf?src-supplier=Digi-Key; Supplier Part Number 1: 641-1018-1-ND
footprint Diode-M
pins: A, K

## CH340E
designator U?
IC USB to Serial; Case/Package: MSOP-10
footprint MSOP-10
pins: 1 UD+, 2 UD-, 3 GND, 4 ~{RTS}, 5 ~{CTS}, 6 TNOW, 7 VCC, 8 TXD, 9 RXD, 10 V3

## CH340G
designator U?
IC USB to Serial; Case/Package: MSOP-10
footprint SOP-16
pins: 1 GND, 2 TXD, 3 RXD, 4 V3, 5 UD+, 6 UD-, 7 XI, 8 XO, 9 CTS#, 10 DSR#, 11 RI#, 12 DCD#, 13 DTR#, 14 RTS#, 15 R232, 16 VCC

## CONN_DSUB_25RM
designator P?, comment DSUB_25RM
CONN, DSUB, HD, 25PIN, R/A, MALE, THD; MANF_P#: -; MANF: -; VALUE: DSUB_25RM
footprint DSUB_25RM (CONN, DSUB MINIATURE, 25 WAY, RIGHT-ANGLE, MALE)
pins: 1, 2, 3, 4, 5, 6, 7, 8, 9, 10, 11, 12, 13, 14, 15, 16, 17, 18, 19, 20, 21, 22, 23, 24, 25, MH1, MH2

## CSA1015
designator Q?
PNP 50V 5V 150mA 80mHz -55to+125
footprint TO-92
pins: 1 E, 2 C, 3 B

## DIODE-S
designator D?, comment Schottky Diod
DIODE SCHOTTKY
footprint SOD80 (MiniMELF)
footprint Diode_Axial_Lead
footprint DO-35
footprint SMA(DO-214AC)
pins: A, K

## DIODE-Z
designator D?, comment 3V6
DIODE ZENER
footprint SOD80 (MiniMELF)
footprint Diode_Axial_Lead
footprint DO-35
footprint SMA(DO-214AC)
pins: A, K

## DS1013-10R
designator J?, comment Box Header R 2x5
IDC BOX HEADER RIGHT 2x5 , 2.54MM , 10 Position
footprint HB-R-10
pins: 1, 2, 3, 4, 5, 6, 7, 8, 9, 10
text: IDC Header Box R 2x5

## EBLS2012-101K
designator L?, comment 100uH
Multilayer Ferrite Chip Inductor ,100uH , 0805 , Tolerance:10% 15 mA
footprint L-0805
pins: 1, 2

## EBLS321609-101K
designator L?, comment 100uH
Multilayer Chip Inductors ,100uH ,1206 , Tolerance:10% ,25 mA
footprint L-1206
pins: 1, 2

## EBMS201209A101
designator FB?
FERRITE BEAD 0805 100R 100Mhz
footprint L-0805
pins: 1, 2

## ES2J-LTP
designator D?, comment ES2J
2A SUPER FAST RECOVERY SILICON RECTIFIER / 13 REEL ;ROHS COMPLIANT: YES; Manufacturer: MCC; Manufacturer Part Number: ES2J-LTP; Reverse Voltage (DC): 600V; Reverse Recovery Time: 35ns; Element Configuration: Single; Forward Voltage: 1.7V; Max Surge Current: 50A; Max Reverse Current: 5uA; Supplier 1: Digi-Key; RoHS: Yes; Category: Rectifier Diodes; Stock 1: 19560; Pricing 1: 1=0/45000, 10=0/33600, 100=0/20900, 500=0/14300, 1000=0/11000, 2000=0/09900 (USD); Mount: Surface Mount; Case/Package: DO-214AC; Number of Pins: 2; Weight: 0.003739oz; Min Operating Temperature: -65°C; Max Operating Temperature: 175°C; Package Quantity: 1; Packaging: Tape and Reel; Average Rectified Current: 2A; Forward Current: 2A; Recovery Time: 35ns; Max Reverse Voltage (DC): 600V; Series: -; ComponentLink1URL: https://datasheet.ciiva.com/6378/es2a-les2j-ldo-214ac-6378187.pdf?src-supplier=Digi-Key; ComponentLink1Description: https://datasheet.ciiva.com/6378/es2a-les2j-ldo-214ac-6378187.pdf?src-supplier=Digi-Key; ComponentLink2URL: https://datasheet.ciiva.com/18567/es2a-les2j-ldo-214ac-18567452.pdf?src-supplier=Digi-Key; ComponentLink2Description: https://datasheet.ciiva.com/18567/es2a-les2j-ldo-214ac-18567452.pdf?src-supplier=Digi-Key; Supplier Part Number 1: 353-ES2J-LTPCT-ND
footprint Diode-M
pins: A, K

## ESP8266_ESP-12-E
designator U?, comment ESP-12-E  (value not drawn)
ESP8266 ESP-12 Wi-Fi Module; DESC: ESP8266-EX; MANF_P#: ESP-12-E; VALUE: ESP-12-E
footprint ESP8266_ESP12E_THD (ESP8266 ESP-12-E YHD)
footprint ESP8266_ESP12E (ESP-12 Wi-Fi Module by AI-Thinker)
pins: 1 ~{RST} "Reset", 2 ADC/TOUT "ADC Input Or TOUT Output", 3 EN "Chip enable", 4 GPIO16/~{WAKE} "GPIO16 or Deep-Sleep Wakeup", 5 GPIO14/HSPICLK "GPIO14 or SPI CLK", 6 GPIO12/HSPIQ "GPIO12 or SPIQ", 7 GPIO13/HSPID/CTS0/RXD2 "GPIO13 or SPID", 8 VDD "Power supply", 9 SPI_MOSI/SD_CMD "GPIO14 or SPI CLK", 10 SPI_MISO/SD_D0 "GPIO12 or SPIQ", 11 GPIO9/SD_D2 "GPIO13 or SPID", 12 GPIO10/SPI_CS/SD_D3 "GPIO15 or SPICS", 13 SPI_INT/SD_D1 "GPIO2 or TX", 14 SPI_CLK/SD_CLK "GPIO0 or SPICS2", 15 GND "Power ground", 16 GPIO15/HSPICS/RTS0/TXD2 "GPIO15 or SPICS", 17 GPIO2/TXD1 "GPIO2 or TX", 18 GPIO0/SPICS2 "GPIO0 or SPICS2", 19 GPIO4 "GPIO5", 20 GPIO5 "GPIO4", 21 GPIO3/RXD0 "GPIO3 or UART RXD", 22 GPIO1/SPICS1/TXD0 "GPIO1 or UART TXD"

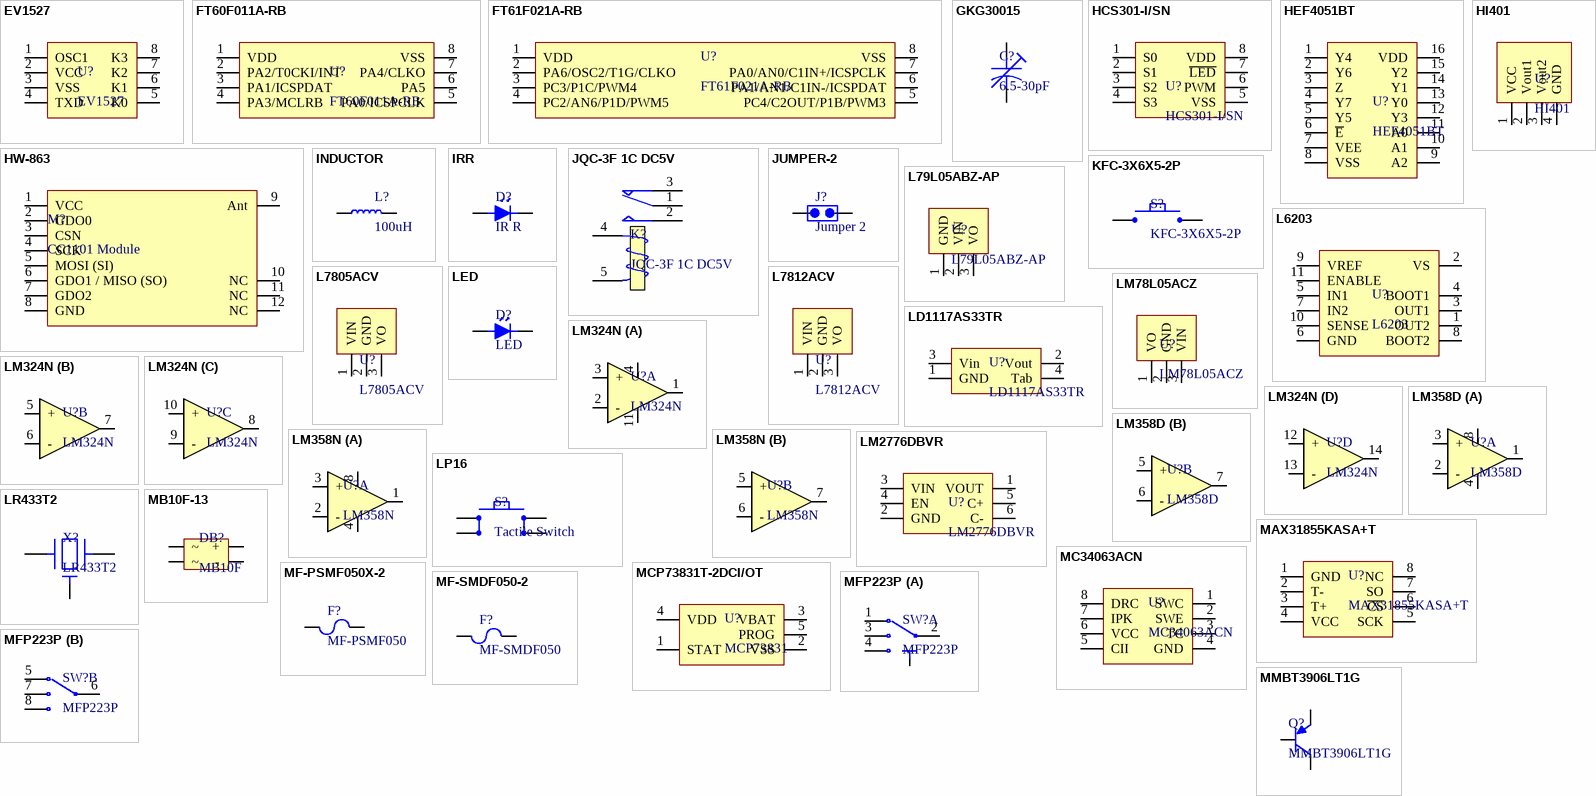
[diagram p1: symbols EV1527 to MMBT3906LT1G]

## EV1527
designator U?
20 bit OTP Encoder  SMD/SMT 3V to 12V; ComponentLink1Description: Shop link; ComponentLink1URL: https://www.javanelec.com/#dtl/19222; ComponentLink2Description: Datasheet; ComponentLink2URL: https://www.javanelec.com/stfiles/getappdocument/1/true/3ec224ec-5cbe-42ba-a8cf-feaf89695cff.zip
footprint SOIC-8
pins: 1 OSC1, 2 VCC, 3 VSS, 4 TXD, 5 K0, 6 K1, 7 K2, 8 K3

## FT60F011A-RB
designator U?
FMD FT60F011A-RB Flash 1KX14b, EEPROM 256X8b, SRAM 64X8b
footprint SOIC-8
pins: 1 VDD, 2 PA2/T0CKI/INT, 3 PA1/ICSPDAT, 4 PA3/MCLRB, 5 PA0/ICSPCLK, 6 PA5, 7 PA4/CLKO, 8 VSS

## FT61F021A-RB
designator U?
FMD FT61F021A-RB Flash 2KX14b, EEPROM 256X8b, SRAM 128X8b
footprint SOIC-8
pins: 1 VDD, 2 PA6/OSC2/T1G/CLKO, 3 PC3/P1C/PWM4, 4 PC2/AN6/P1D/PWM5, 5 PC4/C2OUT/P1B/PWM3, 6 PA1/AN1/C1IN-/ICSPDAT, 7 PA0/AN0/C1IN+/ICSPCLK, 8 VSS

## GKG30015
designator C?, comment 6.5-30pF
Trimmer / Variable Capacitors 6.5-30pF 100V 85 DEG; Manufacturer: Sprague Goodman; Manufacturer Part Number: GKG30015; Q Factor: 300; Supplier 1: Digi-Key; RoHS: Yes; Category: Trimmer / Variable Capacitors; Mount: Through Hole; Min Operating Temperature: -25°C; Max Operating Temperature: 85°C; Package Quantity: 500; Voltage Rating: 100V; Packaging: Bulk; Termination: Snap in; Resistor Type: Ceramic; Voltage Rating (DC): 100V; Features: General Purpose; Series: SURFTRIM® GKG; Length: 6mm; Height: 0.2inch; Lead Pitch: 0.24inch; Height - Seated (Max): 0.197inch; RoHS Compliant: Yes; Lead Free: Lead Free; ComponentLink1URL: http://www.mouser.com/catalog/specsheets/659305J.pdf?src-supplier=Mouser; ComponentLink1Description: http://www.mouser.com/catalog/specsheets/659305J.pdf?src-supplier=Mouser; ComponentLink2URL: https://media.digikey.com/pdf/Data%20Sheets/Sprague-Goodman%20PDFs/Ceramic%20Dielectric%20Trimmer%20Caps.pdf?src-supplier=Digi-Key; ComponentLink2Description: https://media.digikey.com/pdf/Data%20Sheets/Sprague-Goodman%20PDFs/Ceramic%20Dielectric%20Trimmer%20Caps.pdf?src-supplier=Digi-Key; ComponentLink3URL: http://www.spraguegoodman.com/pdfs/305.pdf?src-supplier=Digi-Key; ComponentLink3Description: http://www.spraguegoodman.com/pdfs/305.pdf?src-supplier=Digi-Key; Supplier Part Number 1: SG30015-ND
footprint C-TR-DIP_5mm
footprint C-TR-DIP_6mm
pins: A, K

## HCS301-I/SN
designator U?
Code Hopping Encoder IC Remote Secure Access, Keyless Entry 8-SOIC; Manufacturer: Microchip; Supplier 1: Digikey; Manufacturer Part Number: HCS301-I/SN; RoHS: Yes; Category: RF Semiconductors and Devices; Stock 1: 595; Pricing 1: 1=1/63, 25=1/58, 100=1/51 (USD); ComponentLink1URL: https://datasheet.ciiva.com/14176/hcs301-eng-tds-14176100.pdf?src-supplier=Distrelec; ComponentLink1Description: https://datasheet.ciiva.com/14176/hcs301-eng-tds-14176100.pdf?src-supplier=Distrelec; ComponentLink2URL: https://datasheet.ciiva.com/1167/1669375-1167124.pdf?src-supplier=Element14; ComponentLink2Description: https://datasheet.ciiva.com/1167/1669375-1167124.pdf?src-supplier=Element14; ComponentLink3URL: https://datasheet.ciiva.com/2080/21143c-2080677.pdf?src-supplier=Digikey; ComponentLink3Description: https://datasheet.ciiva.com/2080/21143c-2080677.pdf?src-supplier=Digikey; ComponentLink4URL: https://datasheet.ciiva.com/3030/21143c-3030783.pdf?src-supplier=Avnet; ComponentLink4Description: https://datasheet.ciiva.com/3030/21143c-3030783.pdf?src-supplier=Avnet; Supplier Part Number 1: HCS301-I/SN-ND
footprint SOIC-8
pins: 1 S0, 2 S1, 3 S2, 4 S3, 5 VSS, 6 PWM, 7 ~{LED}, 8 VDD

## HEF4051BT
designator U?
4000B Series 3 to 15 V 50 mA SMT 8-Ch Analog Multiplexer/Demultiplexer - SOIC-16; Manufacturer: Nexperia USA; Manufacturer Part Number: HEF4051BT,653; Supplier 1: Arrow Electronics; RoHS: No; Category: Decoders and Multiplexers; ComponentLink1URL: https://assets.nexperia.com/documents/data-sheet/HEF4051B.pdf?src-supplier=Digi-Key; ComponentLink1Description: https://assets.nexperia.com/documents/data-sheet/HEF4051B.pdf?src-supplier=Digi-Key; Supplier Part Number 1: HEF4051BT,653
footprint SOIC-16
pins: 1 Y4, 2 Y6, 3 Z, 4 Y7, 5 Y5, 6 ~{E}, 7 VEE, 8 VSS, 9 A2, 10 A1, 11 A0, 12 Y3, 13 Y0, 14 Y1, 15 Y2, 16 VDD

## HI401
designator U?
Magnetic Sensor, 4V to 20V,20mA
footprint HI401
pins: 1 VCC, 2 Vout1, 3 Vout2, 4 GND

## HW-863
designator M?, comment CC1101 Module
CC1101 Module Red; Voltage: 1.8-3.6V; Maximum power: 10mW; Central frequency band: 433MHz; Emission current: 29mA; Package type: patch / plug-in 1*8*1.27 SIP; Chip: CC1101; Color: Red; Size: 12*20.8
footprint CC1101-Module-Red
pins: 1 VCC, 2 GDO0, 3 CSN, 4 SCK, 5 MOSI (SI), 6 GDO1 / MISO (SO), 7 GDO2, 8 GND, 9 Ant, 10 NC, 11 NC, 12 NC